# Altium schematic symbol library 691343710002.SchLib: 1 symbol
Pins are listed as number, name and electrical type; pins without a type are passive.

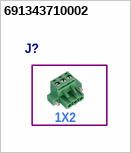
[diagram p0: symbol 691343710002]

## 691343710002
designator J?  (value not drawn)
text: 1X2